# EAGLE library part VENUS838FLPX-L (library calsat)
aerospace GPS chipset
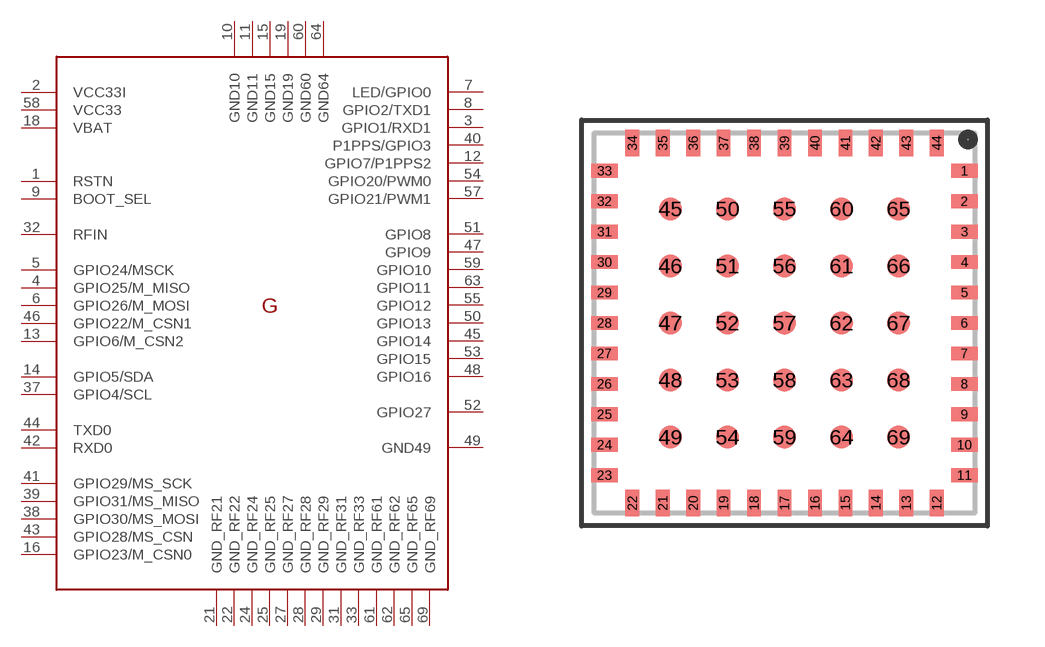
[diagram p0: symbol with the pads of LGA69; footprint LGA69]

Designator prefix G

## VENUS838FLPX-L  [LGA69]
1  RSTN
2  VCC33I
3  GPIO1/RXD1
4  GPIO25/M_MISO
5  GPIO24/MSCK
6  GPIO26/M_MOSI
7  LED/GPIO0
8  GPIO2/TXD1
9  BOOT_SEL
10  GND10
11  GND11
12  GPIO7/P1PPS2
13  GPIO6/M_CSN2
14  GPIO5/SDA
15  GND15
16  GPIO23/M_CSN0
18  VBAT
19  GND19
21  GND_RF21
22  GND_RF22
24  GND_RF24
25  GND_RF25
27  GND_RF27
28  GND_RF28
29  GND_RF29
31  GND_RF31
32  RFIN
33  GND_RF33
37  GPIO4/SCL
38  GPIO30/MS_MOSI
39  GPIO31/MS_MISO
40  P1PPS/GPIO3
41  GPIO29/MS_SCK
42  RXD0
43  GPIO28/MS_CSN
44  TXD0
45  GPIO14
46  GPIO22/M_CSN1
47  GPIO9
48  GPIO16
49  GND49
50  GPIO13
51  GPIO8
52  GPIO27
53  GPIO15
54  GPIO20/PWM0
55  GPIO12
57  GPIO21/PWM1
58  VCC33
59  GPIO10
60  GND60
61  GND_RF61
62  GND_RF62
63  GPIO11
64  GND64
65  GND_RF65
69  GND_RF69

## Footprint LGA69 (pad centres in mm)
69 pin LGA package
smd 0.7 x 0.36: 1 4.73,4; 2 4.73,3.2; 3 4.73,2.4; 4 4.73,1.6; 5 4.73,0.8; 6 4.73,0; 7 4.73,-0.8; 8 4.73,-1.6; 9 4.73,-2.4; 10 4.73,-3.2; 11 4.73,-4; 23 -4.73,-4; 24 -4.73,-3.2; 25 -4.73,-2.4; 26 -4.73,-1.6; 27 -4.73,-0.8; 28 -4.73,0; 29 -4.73,0.8; 30 -4.73,1.6; 31 -4.73,2.4; 32 -4.73,3.2; 33 -4.73,4
smd 0.36 x 0.7: 12 4,-4.73; 13 3.2,-4.73; 14 2.4,-4.73; 15 1.6,-4.73; 16 0.8,-4.73; 17 0,-4.73; 18 -0.8,-4.73; 19 -1.6,-4.73; 20 -2.4,-4.73; 21 -3.2,-4.73; 22 -4,-4.73; 34 -4,4.73; 35 -3.2,4.73; 36 -2.4,4.73; 37 -1.6,4.73; 38 -0.8,4.73; 39 0,4.73; 40 0.8,4.73; 41 1.6,4.73; 42 2.4,4.73; 43 3.2,4.73; 44 4,4.73
smd 0.6 x 0.6: 45 -3,3; 46 -3,1.5; 47 -3,0; 48 -3,-1.5; 49 -3,-3; 50 -1.5,3; 51 -1.5,1.5; 52 -1.5,0; 53 -1.5,-1.5; 54 -1.5,-3; 55 0,3; 56 0,1.5; 57 0,0; 58 0,-1.5; 59 0,-3; 60 1.5,3; 61 1.5,1.5; 62 1.5,0; 63 1.5,-1.5; 64 1.5,-3; 65 3,3; 66 3,1.5; 67 3,0; 68 3,-1.5; 69 3,-3